# Altium integrated library Linear Technology PMIC-Switching Reg LTC1174-LTC3901.IntLib: 2647 symbols (part 244 of 310)
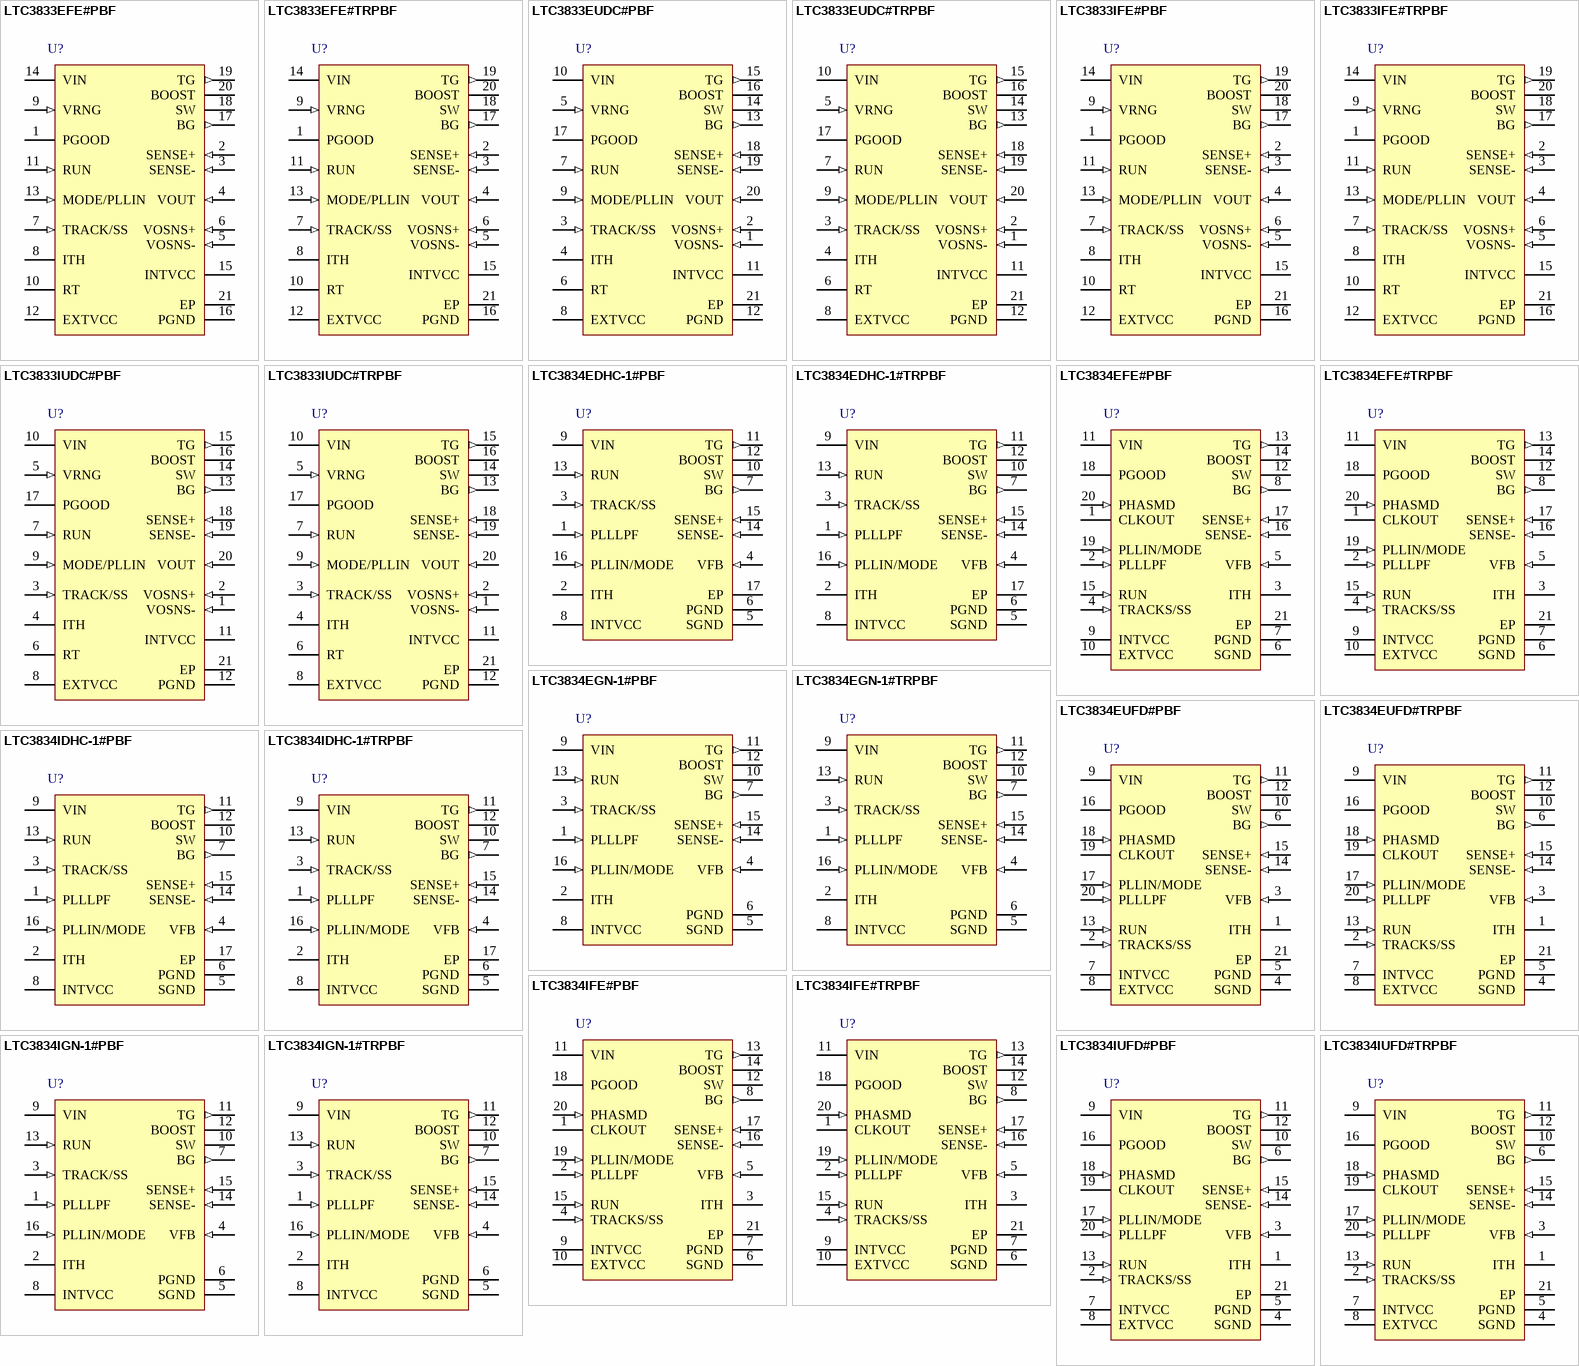
[diagram p260: symbols LTC3833EFE#PBF to LTC3834IUFD#TRPBF]

## LTC3834IFE#TRPBF
designator U?
30 uA IQ Synchronous Step-Down Controller, 20-pin SOP (FE-20-EPV-CB), -40 to 85 degC, Pb-Free, Tape and Reel; Manufacturer: Linear Technology; PartNumber: LTC3834IFE#TRPBF; Number of Outputs: 1; PackageReference: FE-20; PackageDescription: 20-Pin Plastic TSSOP, Body 6.5 x 4.4 mm, Pitch 0.65 mm; Supplier 1: Digi-Key; Supplier Part Number 1: LTC3834IFE#TRPBF-ND; RoHS: TRUE
footprint LT-FE-20-EPV-CB_N (SOP, 20-Leads, Body 6.6x4.5mm, Pitch 0.65mm, Thermal Pad 3.86x2.74mm, IPC Medium Density)
footprint LT-FE-20-EPV-CB_L (SOP, 20-Leads, Body 6.6x4.5mm, Pitch 0.65mm, Thermal Pad 3.86x2.74mm, IPC High Density)
footprint LT-FE-20-EPV-CB_M (SOP, 20-Leads, Body 6.6x4.5mm, Pitch 0.65mm, Thermal Pad 3.86x2.74mm, IPC Low Density)
pins: 1 CLKOUT (oc) "Open-Drain Output Clock Signal available to daisy-chain other controller ICs for additional MOSFET driver stages/phases.", 2 PLLLPF (in) "The phase-locked loop’s lowpass filter is tied to this pin when synchronizing to an external clock. Alternatively, tie this pin to GND, VIN or leave floating to select 250kHz, 530kHz or 400kHz switching frequency.", 3 ITH "Error Amplifier Outputs and Switching Regulator Compensation Points. The current comparator trip point increases with this control voltage.", 4 TRACKS/SS (in) "External Tracking and Soft-Start Input.", 5 VFB (in) "Receives the remotely sensed feedback voltage from an external resistive divider across the output.", 6 SGND (power) "Small-Signal Ground. Must be routed separately from high current grounds to the common (-) terminals of the input capacitor.", 7 PGND (power) "Driver Power Ground. Connects to the source of bottom (synchronous) N-channel MOSFET, anode of the Schottky rectifi er and the (-) terminal of CIN.", 8 BG (out) "High Current Gate Drive for Bottom (Synchronous) N-Channel MOSFET. Voltage swing at this pin is from ground to INTVCC.", 9 INTVCC (power) "Output of the Internal Linear Low Dropout Regulator.", 10 EXTVCC (power) "External Power Input to an Internal LDO Connected to INTVCC. This LDO supplies VCC power, bypassing the internal LDO powered from VIN whenever EXTVCC is higher than 4.7V. See EXTVCC Connection in the Applications Information (See Datasheet)", 11 VIN (power) "Main Supply Pin. A bypass capacitor should be tied between this pin and the signal ground pin.", 12 SW "Switch Node Connections to Inductor. Voltage swing at this pin is from a Schottky diode (external) voltage drop below ground to VIN.", 13 TG (out) "High Current Gate Drive for Top N-Channel MOSFET. These are the outputs of floating drivers with a voltage swing equal to INTVCC - 0.5V superimposed on the switch node voltage SW.", 14 BOOST "Bootstrapped Supply to the Topside Floating Driver. A capacitor is connected between the BOOST and SW pins and a Schottky diode is tied between the BOOST and INTVCC pins. Voltage swing at the BOOST pin is from INTVCC to (VIN (See Datasheet)", 15 RUN (in) "Digital Run Control Input for Controller.", 16 SENSE- (in) "The (-) Input to the Differential Current Comparator.", 17 SENSE+ (in) "The (+) Input to the Differential Current Comparator. The ITH pin voltage and controlled offsets between the SENSE- and SENSE+ pins in conjunction with RSENSE set the current trip threshold.", 18 PGOOD (oc) "Open-Drain Logic Output. PGOOD is pulled to ground when the voltage on the VFB pin is not within +/-10% of its set point.", 19 PLLIN/MODE (in) "External Synchronization Input to Phase Detector and Forced Continuous Control Input.", 20 PHASMD (in) "Control Input to Phase Selector which determines the phase relationships between TG and the CLKOUT signal.", 21 EP (power)

## LTC3834IGN-1#PBF
designator U?
30 uA IQ Synchronous Step-Down Controller, 16-pin SOP (GN-16), -40 to 85 degC, Pb-Free; Manufacturer: Linear Technology; PartNumber: LTC3834IGN-1#PBF; Number of Outputs: 1; PackageReference: GN-16; PackageDescription: 16-Pin Plastic SSOP, Body 4.9 x 3.9 mm, Pitch 0.635 mm; Supplier 1: Digi-Key; Supplier Part Number 1: LTC3834IGN-1#PBF-ND; RoHS: TRUE
footprint LT-GN-16_N (SOP, 16-Leads, Body 5x4mm, Pitch 0.635mm, IPC Medium Density)
footprint LT-GN-16_L (SOP, 16-Leads, Body 5x4mm, Pitch 0.635mm, IPC High Density)
footprint LT-GN-16_M (SOP, 16-Leads, Body 5x4mm, Pitch 0.635mm, IPC Low Density)
pins: 1 PLLLPF (in), 2 ITH, 3 TRACK/SS (in), 4 VFB (in) "Receives the remotely sensed feedback voltage from an external resistive divider across the output.", 5 SGND (power) "Small-Signal Ground. Must be routed separately from high current grounds to the common (-) terminals of the input capacitor", 6 PGND (power), 7 BG (out) "High Current Gate Drive for Bottom (Synchronous) N-Channel MOSFET. Voltage swing at this pin is from ground to INTVCC.", 8 INTVCC (power), 9 VIN (power) "Main Supply Pin. A bypass capacitor should be tied between this pin and the signal ground pin.", 10 SW "Switch Node Connections to Inductor. Voltage swing at this pin is from a Schottky diode (external) voltage drop below ground to VIN", 11 TG (out), 12 BOOST "Bootstrapped Supply to the Topside Floating Driver. A capacitor is connected between the BOOST and SW pins and a Schottky diode is tied between the BOOST and INTVCC pins. Voltage swing at the BOOST pin is from INTVCC to (VIN (See Datasheet)", 13 RUN (in), 14 SENSE- (in) "The (-) Input to the Differential Current Comparator.", 15 SENSE+ (in), 16 PLLIN/MODE (in)

## LTC3834IGN-1#TRPBF
designator U?
30 uA IQ Synchronous Step-Down Controller, 16-pin SOP (GN-16), -40 to 85 degC, Pb-Free, Tape and Reel; Manufacturer: Linear Technology; PartNumber: LTC3834IGN-1#TRPBF; Number of Outputs: 1; PackageReference: GN-16; PackageDescription: 16-Pin Plastic SSOP, Body 4.9 x 3.9 mm, Pitch 0.635 mm; Supplier 1: Digi-Key; Supplier Part Number 1: LTC3834IGN-1#TRPBF-ND; RoHS: TRUE
footprint LT-GN-16_N (SOP, 16-Leads, Body 5x4mm, Pitch 0.635mm, IPC Medium Density)
footprint LT-GN-16_L (SOP, 16-Leads, Body 5x4mm, Pitch 0.635mm, IPC High Density)
footprint LT-GN-16_M (SOP, 16-Leads, Body 5x4mm, Pitch 0.635mm, IPC Low Density)
pins: 1 PLLLPF (in), 2 ITH, 3 TRACK/SS (in), 4 VFB (in) "Receives the remotely sensed feedback voltage from an external resistive divider across the output.", 5 SGND (power) "Small-Signal Ground. Must be routed separately from high current grounds to the common (-) terminals of the input capacitor", 6 PGND (power), 7 BG (out) "High Current Gate Drive for Bottom (Synchronous) N-Channel MOSFET. Voltage swing at this pin is from ground to INTVCC.", 8 INTVCC (power), 9 VIN (power) "Main Supply Pin. A bypass capacitor should be tied between this pin and the signal ground pin.", 10 SW "Switch Node Connections to Inductor. Voltage swing at this pin is from a Schottky diode (external) voltage drop below ground to VIN", 11 TG (out), 12 BOOST "Bootstrapped Supply to the Topside Floating Driver. A capacitor is connected between the BOOST and SW pins and a Schottky diode is tied between the BOOST and INTVCC pins. Voltage swing at the BOOST pin is from INTVCC to (VIN (See Datasheet)", 13 RUN (in), 14 SENSE- (in) "The (-) Input to the Differential Current Comparator.", 15 SENSE+ (in), 16 PLLIN/MODE (in)

## LTC3834IUFD#PBF
designator U?
30 uA IQ Synchronous Step-Down Controller, 20-pin QFN (UFD-20), -40 to 85 degC, Pb-Free; Manufacturer: Linear Technology; PartNumber: LTC3834IUFD#PBF; Number of Outputs: 1; PackageReference: UFD-20; PackageDescription: 20-Pin Plastic QFN, Body 5 x 4 mm, Pitch 0.5 mm; Supplier 1: Digi-Key; Supplier Part Number 1: LTC3834IUFD#PBF-ND; RoHS: TRUE; Code_JEDEC: MO-220
footprint LT-UFD-20_N (QFN, 20-Leads, Body 5.1x4.1mm, Pitch 0.5mm, Thermal Pad 2.65x3.65mm, IPC Medium Density)
footprint LT-UFD-20_L (QFN, 20-Leads, Body 5.1x4.1mm, Pitch 0.5mm, Thermal Pad 2.65x3.65mm, IPC High Density)
footprint LT-UFD-20_M (QFN, 20-Leads, Body 5.1x4.1mm, Pitch 0.5mm, Thermal Pad 2.65x3.65mm, IPC Low Density)
pins: 1 ITH "Error Amplifier Outputs and Switching Regulator Compensation Points. The current comparator trip point increases with this control voltage.", 2 TRACKS/SS (in) "External Tracking and Soft-Start Input.", 3 VFB (in) "Receives the remotely sensed feedback voltage from an external resistive divider across the output.", 4 SGND (power) "Small-Signal Ground. Must be routed separately from high current grounds to the common (-) terminals of the input capacitor.", 5 PGND (power) "Driver Power Ground. Connects to the source of bottom (synchronous) N-channel MOSFET, anode of the Schottky rectifier and the (-) terminal of CIN.", 6 BG (out) "High Current Gate Drive for Bottom (Synchronous) N-Channel MOSFET. Voltage swing at this pin is from ground to INTVCC.", 7 INTVCC (power) "Output of the Internal Linear Low Dropout Regulator.", 8 EXTVCC (power) "External Power Input to an Internal LDO Connected to INTVCC. This LDO supplies VCC power, bypassing the internal LDO powered from VIN whenever EXTVCC is higher than 4.7V. See EXTVCC Connection in the Applications Information (See Datasheet)", 9 VIN (power) "Main Supply Pin. A bypass capacitor should be tied between this pin and the signal ground pin.", 10 SW "Switch Node Connections to Inductor. Voltage swing at this pin is from a Schottky diode (external) voltage drop below ground to VIN.", 11 TG (out) "High Current Gate Drive for Top N-Channel MOSFET. These are the outputs of floating drivers with a voltage swing equal to INTVCC - 0.5V superimposed on the switch node voltage SW.", 12 BOOST "Bootstrapped Supply to the Topside Floating Driver. A capacitor is connected between the BOOST and SW pins and a Schottky diode is tied between the BOOST and INTVCC pins. Voltage swing at the BOOST pin is from INTVCC to (VIN (See Datasheet)", 13 RUN (in) "Digital Run Control Input for Controller.", 14 SENSE- (in) "The (-) Input to the Differential Current Comparator.", 15 SENSE+ (in) "The (+) Input to the Differential Current Comparator. The ITH pin voltage and controlled offsets between the SENSE- and SENSE+ pins in conjunction with RSENSE set the current trip threshold.", 16 PGOOD (oc) "Open-Drain Logic Output. PGOOD is pulled to ground when the voltage on the VFB pin is not within +/-10% of its set point.", 17 PLLIN/MODE (in) "External Synchronization Input to Phase Detector and Forced Continuous Control Input.", 18 PHASMD (in) "Control Input to Phase Selector which determines the phase relationships between TG and the CLKOUT signal.", 19 CLKOUT (oc) "Open-Drain Output Clock Signal available to daisy-chain other controller ICs for additional MOSFET driver stages/phases.", 20 PLLLPF (in) "The phase-locked loop’s lowpass filter is tied to this pin when synchronizing to an external clock. Alternatively, tie this pin to GND, VIN or leave floating to select 250kHz, 530kHz or 400kHz switching frequency.", 21 EP (power)

## LTC3834IUFD#TRPBF
designator U?
30 uA IQ Synchronous Step-Down Controller, 20-pin QFN (UFD-20), -40 to 85 degC, Pb-Free, Tape and Reel; Manufacturer: Linear Technology; PartNumber: LTC3834IUFD#TRPBF; Number of Outputs: 1; PackageReference: UFD-20; PackageDescription: 20-Pin Plastic QFN, Body 5 x 4 mm, Pitch 0.5 mm; Supplier 1: Digi-Key; Supplier Part Number 1: LTC3834IUFD#TRPBF-ND; RoHS: TRUE; Code_JEDEC: MO-220
footprint LT-UFD-20_N (QFN, 20-Leads, Body 5.1x4.1mm, Pitch 0.5mm, Thermal Pad 2.65x3.65mm, IPC Medium Density)
footprint LT-UFD-20_L (QFN, 20-Leads, Body 5.1x4.1mm, Pitch 0.5mm, Thermal Pad 2.65x3.65mm, IPC High Density)
footprint LT-UFD-20_M (QFN, 20-Leads, Body 5.1x4.1mm, Pitch 0.5mm, Thermal Pad 2.65x3.65mm, IPC Low Density)
pins: 1 ITH "Error Amplifier Outputs and Switching Regulator Compensation Points. The current comparator trip point increases with this control voltage.", 2 TRACKS/SS (in) "External Tracking and Soft-Start Input.", 3 VFB (in) "Receives the remotely sensed feedback voltage from an external resistive divider across the output.", 4 SGND (power) "Small-Signal Ground. Must be routed separately from high current grounds to the common (-) terminals of the input capacitor.", 5 PGND (power) "Driver Power Ground. Connects to the source of bottom (synchronous) N-channel MOSFET, anode of the Schottky rectifier and the (-) terminal of CIN.", 6 BG (out) "High Current Gate Drive for Bottom (Synchronous) N-Channel MOSFET. Voltage swing at this pin is from ground to INTVCC.", 7 INTVCC (power) "Output of the Internal Linear Low Dropout Regulator.", 8 EXTVCC (power) "External Power Input to an Internal LDO Connected to INTVCC. This LDO supplies VCC power, bypassing the internal LDO powered from VIN whenever EXTVCC is higher than 4.7V. See EXTVCC Connection in the Applications Information (See Datasheet)", 9 VIN (power) "Main Supply Pin. A bypass capacitor should be tied between this pin and the signal ground pin.", 10 SW "Switch Node Connections to Inductor. Voltage swing at this pin is from a Schottky diode (external) voltage drop below ground to VIN.", 11 TG (out) "High Current Gate Drive for Top N-Channel MOSFET. These are the outputs of floating drivers with a voltage swing equal to INTVCC - 0.5V superimposed on the switch node voltage SW.", 12 BOOST "Bootstrapped Supply to the Topside Floating Driver. A capacitor is connected between the BOOST and SW pins and a Schottky diode is tied between the BOOST and INTVCC pins. Voltage swing at the BOOST pin is from INTVCC to (VIN (See Datasheet)", 13 RUN (in) "Digital Run Control Input for Controller.", 14 SENSE- (in) "The (-) Input to the Differential Current Comparator.", 15 SENSE+ (in) "The (+) Input to the Differential Current Comparator. The ITH pin voltage and controlled offsets between the SENSE- and SENSE+ pins in conjunction with RSENSE set the current trip threshold.", 16 PGOOD (oc) "Open-Drain Logic Output. PGOOD is pulled to ground when the voltage on the VFB pin is not within +/-10% of its set point.", 17 PLLIN/MODE (in) "External Synchronization Input to Phase Detector and Forced Continuous Control Input.", 18 PHASMD (in) "Control Input to Phase Selector which determines the phase relationships between TG and the CLKOUT signal.", 19 CLKOUT (oc) "Open-Drain Output Clock Signal available to daisy-chain other controller ICs for additional MOSFET driver stages/phases.", 20 PLLLPF (in) "The phase-locked loop’s lowpass filter is tied to this pin when synchronizing to an external clock. Alternatively, tie this pin to GND, VIN or leave floating to select 250kHz, 530kHz or 400kHz switching frequency.", 21 EP (power)

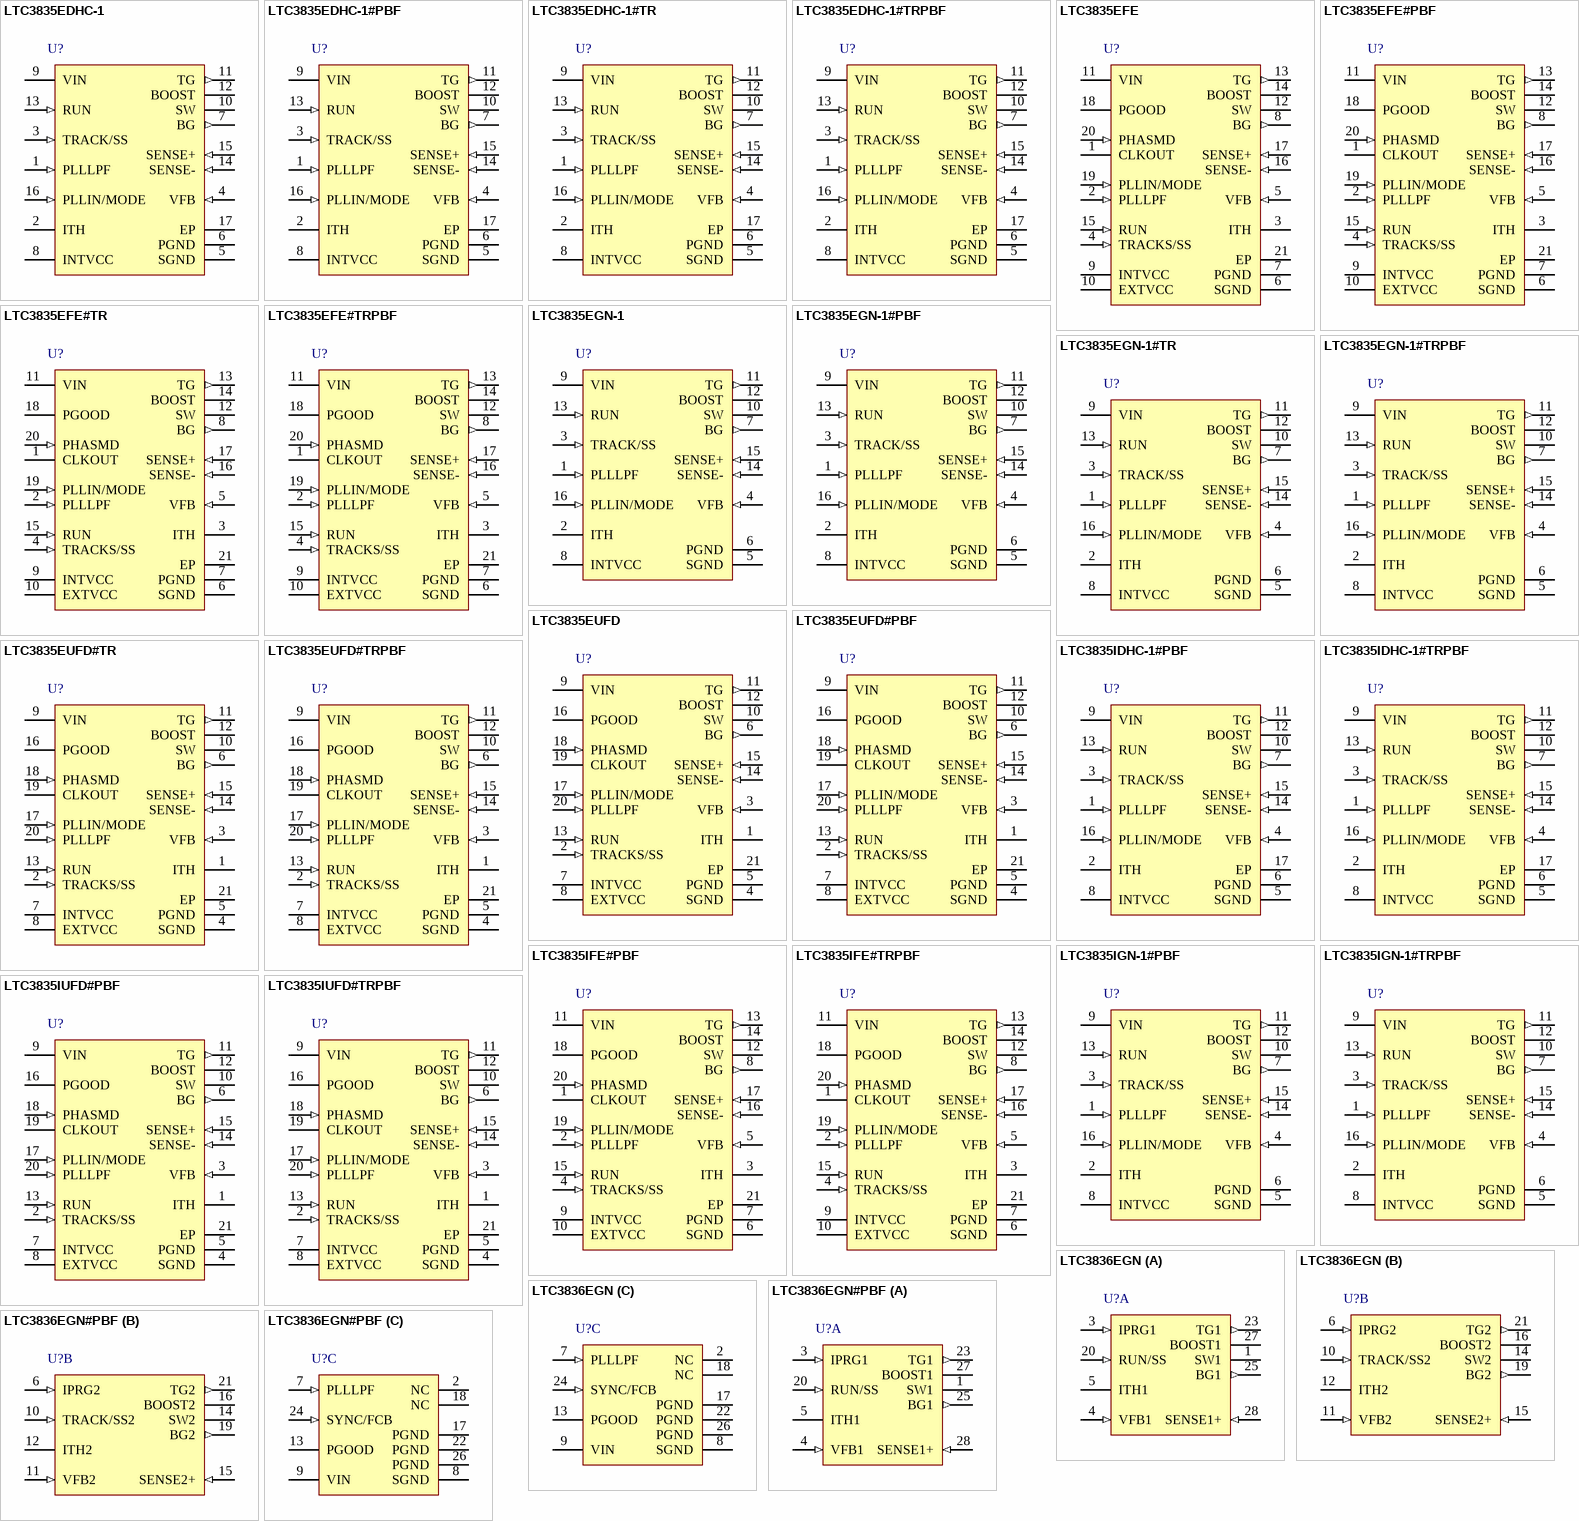
[diagram p87: symbols LTC3835EDHC-1 to LTC3836EGN#PBF]

## LTC3835EDHC-1
designator U?
Low IQ Synchronous Step-Down Controller, 16-pin SON (DHC-16), -40 to 85 degC; Manufacturer: Linear Technology; PartNumber: LTC3835EDHC-1; Number of Outputs: 1; PackageReference: DHC-16; PackageDescription: 16-Pin Plastic DFN, Body 5 x 3 mm, Pitch 0.5 mm; RoHS: FALSE; Code_JEDEC: MO-229
footprint LT-DHC-16_V (SON, 16-Leads, Body 5x3mm, Pitch 0.5mm, Thermal Pad 4.4X1.65mm)
pins: 1 PLLLPF (in) "The phase-locked loop’s lowpass filter is tied to this pin when synchronizing to an external clock. Alternatively, tie this pin to GND, INTVCC or leave floating to select 250kHz, 530kHz or 400kHz switching frequency.", 2 ITH "Error Amplifier Outputs and Switching Regulator Compensation Points. The current comparator trip point increases with this control voltage.", 3 TRACK/SS (in) "External Tracking and Soft-Start Input.", 4 VFB (in) "Receives the remotely sensed feedback voltage from an external resistive divider across the output.", 5 SGND (power) "Small Signal Ground. Must be routed separately from high current grounds to the common (-) terminals of the input capacitor.", 6 PGND (power) "Driver Power Ground. Connects to the source of bottom (synchronous) N-channel MOSFET, anode of the Schottky rectifier and the (-) terminal of CIN.", 7 BG (out) "High Current Gate Drive for Bottom (Synchronous) N-Channel MOSFET. Voltage swing at this pin is from ground to INTVCC.", 8 INTVCC (power) "Output of the Internal Linear Low Dropout Regulator. The driver and control circuits are powered from this voltage source. Must be decoupled to power ground with a minimum of 4.7uF tantalum or ceramic capacitor.", 9 VIN (power) "Main Supply Pin. A bypass capacitor should be tied between this pin and the signal ground pin.", 10 SW "Switch Node Connections to Inductor. Voltage swing at this pin is from a Schottky diode (external) voltage drop below ground to VIN.", 11 TG (out) "High Current Gate Drive for Top Nchannel MOSFET. These are the outputs of floating drivers with a voltage swing equal to INTVCC - 0.5V superimposed on the switch node voltage SW.", 12 BOOST "Bootstrapped Supply to the Top Side Floating Driver. A capacitor is connected between the BOOST and SW pins and a Schottky diode is tied between the BOOST and INTVCC pins. Voltage swing at the BOOST pin is from INTVCC to (See Datasheet)", 13 RUN (in) "Digital Run Control Input for Controller.", 14 SENSE- (in) "The (-) Input to the Differential Current Comparator.", 15 SENSE+ (in) "The (+) Input to the Differential Current Comparator. The ITH pin voltage and controlled offsets between the SENSE- and SENSE+ pins in conjunction with RSENSE set the current trip threshold.", 16 PLLIN/MODE (in) "External Synchronization Input to Phase Detector and Forced Continuous Control Input. When an external clock is applied to this pin, the phase-locked loop will force the rising TG signal to be synchronized with the rising (See Datasheet)", 17 EP (power) "SGND. Must be soldered to PCB."

## LTC3835EDHC-1#PBF
designator U?
Low IQ Synchronous Step-Down Controller, 16-pin SON (DHC-16), -40 to 85 degC, Pb-Free; Manufacturer: Linear Technology; PartNumber: LTC3835EDHC-1#PBF; Number of Outputs: 1; PackageReference: DHC-16; PackageDescription: 16-Pin Plastic DFN, Body 5 x 3 mm, Pitch 0.5 mm; Supplier 1: Digi-Key; Supplier Part Number 1: LTC3835EDHC-1#PBF-ND; RoHS: TRUE; Code_JEDEC: MO-229
footprint LT-DHC-16_V (SON, 16-Leads, Body 5x3mm, Pitch 0.5mm, Thermal Pad 4.4X1.65mm)
pins: 1 PLLLPF (in) "The phase-locked loop’s lowpass filter is tied to this pin when synchronizing to an external clock. Alternatively, tie this pin to GND, INTVCC or leave floating to select 250kHz, 530kHz or 400kHz switching frequency.", 2 ITH "Error Amplifier Outputs and Switching Regulator Compensation Points. The current comparator trip point increases with this control voltage.", 3 TRACK/SS (in) "External Tracking and Soft-Start Input.", 4 VFB (in) "Receives the remotely sensed feedback voltage from an external resistive divider across the output.", 5 SGND (power) "Small Signal Ground. Must be routed separately from high current grounds to the common (-) terminals of the input capacitor.", 6 PGND (power) "Driver Power Ground. Connects to the source of bottom (synchronous) N-channel MOSFET, anode of the Schottky rectifier and the (-) terminal of CIN.", 7 BG (out) "High Current Gate Drive for Bottom (Synchronous) N-Channel MOSFET. Voltage swing at this pin is from ground to INTVCC.", 8 INTVCC (power) "Output of the Internal Linear Low Dropout Regulator. The driver and control circuits are powered from this voltage source. Must be decoupled to power ground with a minimum of 4.7uF tantalum or ceramic capacitor.", 9 VIN (power) "Main Supply Pin. A bypass capacitor should be tied between this pin and the signal ground pin.", 10 SW "Switch Node Connections to Inductor. Voltage swing at this pin is from a Schottky diode (external) voltage drop below ground to VIN.", 11 TG (out) "High Current Gate Drive for Top Nchannel MOSFET. These are the outputs of floating drivers with a voltage swing equal to INTVCC - 0.5V superimposed on the switch node voltage SW.", 12 BOOST "Bootstrapped Supply to the Top Side Floating Driver. A capacitor is connected between the BOOST and SW pins and a Schottky diode is tied between the BOOST and INTVCC pins. Voltage swing at the BOOST pin is from INTVCC to (See Datasheet)", 13 RUN (in) "Digital Run Control Input for Controller.", 14 SENSE- (in) "The (-) Input to the Differential Current Comparator.", 15 SENSE+ (in) "The (+) Input to the Differential Current Comparator. The ITH pin voltage and controlled offsets between the SENSE- and SENSE+ pins in conjunction with RSENSE set the current trip threshold.", 16 PLLIN/MODE (in) "External Synchronization Input to Phase Detector and Forced Continuous Control Input. When an external clock is applied to this pin, the phase-locked loop will force the rising TG signal to be synchronized with the rising (See Datasheet)", 17 EP (power) "SGND. Must be soldered to PCB."

## LTC3835EDHC-1#TR
designator U?
Low IQ Synchronous Step-Down Controller, 16-pin SON (DHC-16), -40 to 85 degC, Tape and Reel; Manufacturer: Linear Technology; PartNumber: LTC3835EDHC-1#TR; Number of Outputs: 1; PackageReference: DHC-16; PackageDescription: 16-Pin Plastic DFN, Body 5 x 3 mm, Pitch 0.5 mm; RoHS: FALSE; Code_JEDEC: MO-229
footprint LT-DHC-16_V (SON, 16-Leads, Body 5x3mm, Pitch 0.5mm, Thermal Pad 4.4X1.65mm)
pins: 1 PLLLPF (in) "The phase-locked loop’s lowpass filter is tied to this pin when synchronizing to an external clock. Alternatively, tie this pin to GND, INTVCC or leave floating to select 250kHz, 530kHz or 400kHz switching frequency.", 2 ITH "Error Amplifier Outputs and Switching Regulator Compensation Points. The current comparator trip point increases with this control voltage.", 3 TRACK/SS (in) "External Tracking and Soft-Start Input.", 4 VFB (in) "Receives the remotely sensed feedback voltage from an external resistive divider across the output.", 5 SGND (power) "Small Signal Ground. Must be routed separately from high current grounds to the common (-) terminals of the input capacitor.", 6 PGND (power) "Driver Power Ground. Connects to the source of bottom (synchronous) N-channel MOSFET, anode of the Schottky rectifier and the (-) terminal of CIN.", 7 BG (out) "High Current Gate Drive for Bottom (Synchronous) N-Channel MOSFET. Voltage swing at this pin is from ground to INTVCC.", 8 INTVCC (power) "Output of the Internal Linear Low Dropout Regulator. The driver and control circuits are powered from this voltage source. Must be decoupled to power ground with a minimum of 4.7uF tantalum or ceramic capacitor.", 9 VIN (power) "Main Supply Pin. A bypass capacitor should be tied between this pin and the signal ground pin.", 10 SW "Switch Node Connections to Inductor. Voltage swing at this pin is from a Schottky diode (external) voltage drop below ground to VIN.", 11 TG (out) "High Current Gate Drive for Top Nchannel MOSFET. These are the outputs of floating drivers with a voltage swing equal to INTVCC - 0.5V superimposed on the switch node voltage SW.", 12 BOOST "Bootstrapped Supply to the Top Side Floating Driver. A capacitor is connected between the BOOST and SW pins and a Schottky diode is tied between the BOOST and INTVCC pins. Voltage swing at the BOOST pin is from INTVCC to (See Datasheet)", 13 RUN (in) "Digital Run Control Input for Controller.", 14 SENSE- (in) "The (-) Input to the Differential Current Comparator.", 15 SENSE+ (in) "The (+) Input to the Differential Current Comparator. The ITH pin voltage and controlled offsets between the SENSE- and SENSE+ pins in conjunction with RSENSE set the current trip threshold.", 16 PLLIN/MODE (in) "External Synchronization Input to Phase Detector and Forced Continuous Control Input. When an external clock is applied to this pin, the phase-locked loop will force the rising TG signal to be synchronized with the rising (See Datasheet)", 17 EP (power) "SGND. Must be soldered to PCB."

## LTC3835EDHC-1#TRPBF
designator U?
Low IQ Synchronous Step-Down Controller, 16-pin SON (DHC-16), -40 to 85 degC, Pb-Free, Tape and Reel; Manufacturer: Linear Technology; PartNumber: LTC3835EDHC-1#TRPBF; Number of Outputs: 1; PackageReference: DHC-16; PackageDescription: 16-Pin Plastic DFN, Body 5 x 3 mm, Pitch 0.5 mm; Supplier 1: Digi-Key; Supplier Part Number 1: LTC3835EDHC-1#TRPBF-ND; RoHS: TRUE; Code_JEDEC: MO-229
footprint LT-DHC-16_V (SON, 16-Leads, Body 5x3mm, Pitch 0.5mm, Thermal Pad 4.4X1.65mm)
pins: 1 PLLLPF (in) "The phase-locked loop’s lowpass filter is tied to this pin when synchronizing to an external clock. Alternatively, tie this pin to GND, INTVCC or leave floating to select 250kHz, 530kHz or 400kHz switching frequency.", 2 ITH "Error Amplifier Outputs and Switching Regulator Compensation Points. The current comparator trip point increases with this control voltage.", 3 TRACK/SS (in) "External Tracking and Soft-Start Input.", 4 VFB (in) "Receives the remotely sensed feedback voltage from an external resistive divider across the output.", 5 SGND (power) "Small Signal Ground. Must be routed separately from high current grounds to the common (-) terminals of the input capacitor.", 6 PGND (power) "Driver Power Ground. Connects to the source of bottom (synchronous) N-channel MOSFET, anode of the Schottky rectifier and the (-) terminal of CIN.", 7 BG (out) "High Current Gate Drive for Bottom (Synchronous) N-Channel MOSFET. Voltage swing at this pin is from ground to INTVCC.", 8 INTVCC (power) "Output of the Internal Linear Low Dropout Regulator. The driver and control circuits are powered from this voltage source. Must be decoupled to power ground with a minimum of 4.7uF tantalum or ceramic capacitor.", 9 VIN (power) "Main Supply Pin. A bypass capacitor should be tied between this pin and the signal ground pin.", 10 SW "Switch Node Connections to Inductor. Voltage swing at this pin is from a Schottky diode (external) voltage drop below ground to VIN.", 11 TG (out) "High Current Gate Drive for Top Nchannel MOSFET. These are the outputs of floating drivers with a voltage swing equal to INTVCC - 0.5V superimposed on the switch node voltage SW.", 12 BOOST "Bootstrapped Supply to the Top Side Floating Driver. A capacitor is connected between the BOOST and SW pins and a Schottky diode is tied between the BOOST and INTVCC pins. Voltage swing at the BOOST pin is from INTVCC to (See Datasheet)", 13 RUN (in) "Digital Run Control Input for Controller.", 14 SENSE- (in) "The (-) Input to the Differential Current Comparator.", 15 SENSE+ (in) "The (+) Input to the Differential Current Comparator. The ITH pin voltage and controlled offsets between the SENSE- and SENSE+ pins in conjunction with RSENSE set the current trip threshold.", 16 PLLIN/MODE (in) "External Synchronization Input to Phase Detector and Forced Continuous Control Input. When an external clock is applied to this pin, the phase-locked loop will force the rising TG signal to be synchronized with the rising (See Datasheet)", 17 EP (power) "SGND. Must be soldered to PCB."

## LTC3835EFE
designator U?
Low IQ Synchronous Step-Down Controller, 20-pin SOP (FE-20-EPV-CB), -40 to 85 degC; Manufacturer: Linear Technology; PartNumber: LTC3835EFE; Number of Outputs: 1; PackageReference: FE-20; PackageDescription: 20-Pin Plastic TSSOP, Body 6.5 x 4.4 mm, Pitch 0.65 mm; RoHS: FALSE
footprint LT-FE-20-EPV-CB_N (SOP, 20-Leads, Body 6.6x4.5mm, Pitch 0.65mm, Thermal Pad 3.86x2.74mm, IPC Medium Density)
footprint LT-FE-20-EPV-CB_L (SOP, 20-Leads, Body 6.6x4.5mm, Pitch 0.65mm, Thermal Pad 3.86x2.74mm, IPC High Density)
footprint LT-FE-20-EPV-CB_M (SOP, 20-Leads, Body 6.6x4.5mm, Pitch 0.65mm, Thermal Pad 3.86x2.74mm, IPC Low Density)
pins: 1 CLKOUT (oc) "Open-Drain Output Clock Signal available to daisy-chain other controller ICs for additional MOSFET driver stages/phases.", 2 PLLLPF (in) "The phase-locked loop’s lowpass filter is tied to this pin when synchronizing to an external clock. Alternatively, tie this pin to GND, VIN or leave floating to select 250kHz, 530kHz or 400kHz switching frequency.", 3 ITH "Error Amplifier Outputs and Switching Regulator Compensation Points. The current comparator trip point increases with this control voltage.", 4 TRACKS/SS (in) "External Tracking and Soft-Start Input.", 5 VFB (in) "Receives the remotely sensed feedback voltage from an external resistive divider across the output.", 6 SGND (power) "Small-Signal Ground. Must be routed separately from high current grounds to the common (-) terminals of the input capacitor.", 7 PGND (power) "Driver Power Ground. Connects to the source of bottom (synchronous) N-channel MOSFET, anode of the Schottky rectifi er and the (-) terminal of CIN.", 8 BG (out) "High Current Gate Drive for Bottom (Synchronous) N-Channel MOSFET. Voltage swing at this pin is from ground to INTVCC.", 9 INTVCC (power) "Output of the Internal Linear Low Dropout Regulator.", 10 EXTVCC (power) "External Power Input to an Internal LDO Connected to INTVCC. This LDO supplies VCC power, bypassing the internal LDO powered from VIN whenever EXTVCC is higher than 4.7V. See EXTVCC Connection in the Applications Information (See Datasheet)", 11 VIN (power) "Main Supply Pin. A bypass capacitor should be tied between this pin and the signal ground pin.", 12 SW "Switch Node Connections to Inductor. Voltage swing at this pin is from a Schottky diode (external) voltage drop below ground to VIN.", 13 TG (out) "High Current Gate Drive for Top N-Channel MOSFET. These are the outputs of floating drivers with a voltage swing equal to INTVCC - 0.5V superimposed on the switch node voltage SW.", 14 BOOST "Bootstrapped Supply to the Topside Floating Driver. A capacitor is connected between the BOOST and SW pins and a Schottky diode is tied between the BOOST and INTVCC pins. Voltage swing at the BOOST pin is from INTVCC to (VIN (See Datasheet)", 15 RUN (in) "Digital Run Control Input for Controller.", 16 SENSE- (in) "The (-) Input to the Differential Current Comparator.", 17 SENSE+ (in) "The (+) Input to the Differential Current Comparator. The ITH pin voltage and controlled offsets between the SENSE- and SENSE+ pins in conjunction with RSENSE set the current trip threshold.", 18 PGOOD (oc) "Open-Drain Logic Output. PGOOD is pulled to ground when the voltage on the VFB pin is not within +/-10% of its set point.", 19 PLLIN/MODE (in) "External Synchronization Input to Phase Detector and Forced Continuous Control Input.", 20 PHASMD (in) "Control Input to Phase Selector which determines the phase relationships between TG and the CLKOUT signal.", 21 EP (power)

## LTC3835EFE#PBF
designator U?
Low IQ Synchronous Step-Down Controller, 20-pin SOP (FE-20-EPV-CB), -40 to 85 degC, Pb-Free; Manufacturer: Linear Technology; PartNumber: LTC3835EFE#PBF; Number of Outputs: 1; PackageReference: FE-20; PackageDescription: 20-Pin Plastic TSSOP, Body 6.5 x 4.4 mm, Pitch 0.65 mm; Supplier 1: Digi-Key; Supplier Part Number 1: LTC3835EFE#PBF-ND; RoHS: TRUE
footprint LT-FE-20-EPV-CB_N (SOP, 20-Leads, Body 6.6x4.5mm, Pitch 0.65mm, Thermal Pad 3.86x2.74mm, IPC Medium Density)
footprint LT-FE-20-EPV-CB_L (SOP, 20-Leads, Body 6.6x4.5mm, Pitch 0.65mm, Thermal Pad 3.86x2.74mm, IPC High Density)
footprint LT-FE-20-EPV-CB_M (SOP, 20-Leads, Body 6.6x4.5mm, Pitch 0.65mm, Thermal Pad 3.86x2.74mm, IPC Low Density)
pins: 1 CLKOUT (oc) "Open-Drain Output Clock Signal available to daisy-chain other controller ICs for additional MOSFET driver stages/phases.", 2 PLLLPF (in) "The phase-locked loop’s lowpass filter is tied to this pin when synchronizing to an external clock. Alternatively, tie this pin to GND, VIN or leave floating to select 250kHz, 530kHz or 400kHz switching frequency.", 3 ITH "Error Amplifier Outputs and Switching Regulator Compensation Points. The current comparator trip point increases with this control voltage.", 4 TRACKS/SS (in) "External Tracking and Soft-Start Input.", 5 VFB (in) "Receives the remotely sensed feedback voltage from an external resistive divider across the output.", 6 SGND (power) "Small-Signal Ground. Must be routed separately from high current grounds to the common (-) terminals of the input capacitor.", 7 PGND (power) "Driver Power Ground. Connects to the source of bottom (synchronous) N-channel MOSFET, anode of the Schottky rectifi er and the (-) terminal of CIN.", 8 BG (out) "High Current Gate Drive for Bottom (Synchronous) N-Channel MOSFET. Voltage swing at this pin is from ground to INTVCC.", 9 INTVCC (power) "Output of the Internal Linear Low Dropout Regulator.", 10 EXTVCC (power) "External Power Input to an Internal LDO Connected to INTVCC. This LDO supplies VCC power, bypassing the internal LDO powered from VIN whenever EXTVCC is higher than 4.7V. See EXTVCC Connection in the Applications Information (See Datasheet)", 11 VIN (power) "Main Supply Pin. A bypass capacitor should be tied between this pin and the signal ground pin.", 12 SW "Switch Node Connections to Inductor. Voltage swing at this pin is from a Schottky diode (external) voltage drop below ground to VIN.", 13 TG (out) "High Current Gate Drive for Top N-Channel MOSFET. These are the outputs of floating drivers with a voltage swing equal to INTVCC - 0.5V superimposed on the switch node voltage SW.", 14 BOOST "Bootstrapped Supply to the Topside Floating Driver. A capacitor is connected between the BOOST and SW pins and a Schottky diode is tied between the BOOST and INTVCC pins. Voltage swing at the BOOST pin is from INTVCC to (VIN (See Datasheet)", 15 RUN (in) "Digital Run Control Input for Controller.", 16 SENSE- (in) "The (-) Input to the Differential Current Comparator.", 17 SENSE+ (in) "The (+) Input to the Differential Current Comparator. The ITH pin voltage and controlled offsets between the SENSE- and SENSE+ pins in conjunction with RSENSE set the current trip threshold.", 18 PGOOD (oc) "Open-Drain Logic Output. PGOOD is pulled to ground when the voltage on the VFB pin is not within +/-10% of its set point.", 19 PLLIN/MODE (in) "External Synchronization Input to Phase Detector and Forced Continuous Control Input.", 20 PHASMD (in) "Control Input to Phase Selector which determines the phase relationships between TG and the CLKOUT signal.", 21 EP (power)

## LTC3835EFE#TR
designator U?
Low IQ Synchronous Step-Down Controller, 20-pin SOP (FE-20-EPV-CB), -40 to 85 degC, Tape and Reel; Manufacturer: Linear Technology; PartNumber: LTC3835EFE#TR; Number of Outputs: 1; PackageReference: FE-20; PackageDescription: 20-Pin Plastic TSSOP, Body 6.5 x 4.4 mm, Pitch 0.65 mm; RoHS: FALSE
footprint LT-FE-20-EPV-CB_N (SOP, 20-Leads, Body 6.6x4.5mm, Pitch 0.65mm, Thermal Pad 3.86x2.74mm, IPC Medium Density)
footprint LT-FE-20-EPV-CB_L (SOP, 20-Leads, Body 6.6x4.5mm, Pitch 0.65mm, Thermal Pad 3.86x2.74mm, IPC High Density)
footprint LT-FE-20-EPV-CB_M (SOP, 20-Leads, Body 6.6x4.5mm, Pitch 0.65mm, Thermal Pad 3.86x2.74mm, IPC Low Density)
pins: 1 CLKOUT (oc) "Open-Drain Output Clock Signal available to daisy-chain other controller ICs for additional MOSFET driver stages/phases.", 2 PLLLPF (in) "The phase-locked loop’s lowpass filter is tied to this pin when synchronizing to an external clock. Alternatively, tie this pin to GND, VIN or leave floating to select 250kHz, 530kHz or 400kHz switching frequency.", 3 ITH "Error Amplifier Outputs and Switching Regulator Compensation Points. The current comparator trip point increases with this control voltage.", 4 TRACKS/SS (in) "External Tracking and Soft-Start Input.", 5 VFB (in) "Receives the remotely sensed feedback voltage from an external resistive divider across the output.", 6 SGND (power) "Small-Signal Ground. Must be routed separately from high current grounds to the common (-) terminals of the input capacitor.", 7 PGND (power) "Driver Power Ground. Connects to the source of bottom (synchronous) N-channel MOSFET, anode of the Schottky rectifi er and the (-) terminal of CIN.", 8 BG (out) "High Current Gate Drive for Bottom (Synchronous) N-Channel MOSFET. Voltage swing at this pin is from ground to INTVCC.", 9 INTVCC (power) "Output of the Internal Linear Low Dropout Regulator.", 10 EXTVCC (power) "External Power Input to an Internal LDO Connected to INTVCC. This LDO supplies VCC power, bypassing the internal LDO powered from VIN whenever EXTVCC is higher than 4.7V. See EXTVCC Connection in the Applications Information (See Datasheet)", 11 VIN (power) "Main Supply Pin. A bypass capacitor should be tied between this pin and the signal ground pin.", 12 SW "Switch Node Connections to Inductor. Voltage swing at this pin is from a Schottky diode (external) voltage drop below ground to VIN.", 13 TG (out) "High Current Gate Drive for Top N-Channel MOSFET. These are the outputs of floating drivers with a voltage swing equal to INTVCC - 0.5V superimposed on the switch node voltage SW.", 14 BOOST "Bootstrapped Supply to the Topside Floating Driver. A capacitor is connected between the BOOST and SW pins and a Schottky diode is tied between the BOOST and INTVCC pins. Voltage swing at the BOOST pin is from INTVCC to (VIN (See Datasheet)", 15 RUN (in) "Digital Run Control Input for Controller.", 16 SENSE- (in) "The (-) Input to the Differential Current Comparator.", 17 SENSE+ (in) "The (+) Input to the Differential Current Comparator. The ITH pin voltage and controlled offsets between the SENSE- and SENSE+ pins in conjunction with RSENSE set the current trip threshold.", 18 PGOOD (oc) "Open-Drain Logic Output. PGOOD is pulled to ground when the voltage on the VFB pin is not within +/-10% of its set point.", 19 PLLIN/MODE (in) "External Synchronization Input to Phase Detector and Forced Continuous Control Input.", 20 PHASMD (in) "Control Input to Phase Selector which determines the phase relationships between TG and the CLKOUT signal.", 21 EP (power)

## LTC3835EFE#TRPBF
designator U?
Low IQ Synchronous Step-Down Controller, 20-pin SOP (FE-20-EPV-CB), -40 to 85 degC, Pb-Free, Tape and Reel; Manufacturer: Linear Technology; PartNumber: LTC3835EFE#TRPBF; Number of Outputs: 1; PackageReference: FE-20; PackageDescription: 20-Pin Plastic TSSOP, Body 6.5 x 4.4 mm, Pitch 0.65 mm; Supplier 1: Digi-Key; Supplier Part Number 1: LTC3835EFE#TRPBF-ND; RoHS: TRUE
footprint LT-FE-20-EPV-CB_N (SOP, 20-Leads, Body 6.6x4.5mm, Pitch 0.65mm, Thermal Pad 3.86x2.74mm, IPC Medium Density)
footprint LT-FE-20-EPV-CB_L (SOP, 20-Leads, Body 6.6x4.5mm, Pitch 0.65mm, Thermal Pad 3.86x2.74mm, IPC High Density)
footprint LT-FE-20-EPV-CB_M (SOP, 20-Leads, Body 6.6x4.5mm, Pitch 0.65mm, Thermal Pad 3.86x2.74mm, IPC Low Density)
pins: 1 CLKOUT (oc) "Open-Drain Output Clock Signal available to daisy-chain other controller ICs for additional MOSFET driver stages/phases.", 2 PLLLPF (in) "The phase-locked loop’s lowpass filter is tied to this pin when synchronizing to an external clock. Alternatively, tie this pin to GND, VIN or leave floating to select 250kHz, 530kHz or 400kHz switching frequency.", 3 ITH "Error Amplifier Outputs and Switching Regulator Compensation Points. The current comparator trip point increases with this control voltage.", 4 TRACKS/SS (in) "External Tracking and Soft-Start Input.", 5 VFB (in) "Receives the remotely sensed feedback voltage from an external resistive divider across the output.", 6 SGND (power) "Small-Signal Ground. Must be routed separately from high current grounds to the common (-) terminals of the input capacitor.", 7 PGND (power) "Driver Power Ground. Connects to the source of bottom (synchronous) N-channel MOSFET, anode of the Schottky rectifi er and the (-) terminal of CIN.", 8 BG (out) "High Current Gate Drive for Bottom (Synchronous) N-Channel MOSFET. Voltage swing at this pin is from ground to INTVCC.", 9 INTVCC (power) "Output of the Internal Linear Low Dropout Regulator.", 10 EXTVCC (power) "External Power Input to an Internal LDO Connected to INTVCC. This LDO supplies VCC power, bypassing the internal LDO powered from VIN whenever EXTVCC is higher than 4.7V. See EXTVCC Connection in the Applications Information (See Datasheet)", 11 VIN (power) "Main Supply Pin. A bypass capacitor should be tied between this pin and the signal ground pin.", 12 SW "Switch Node Connections to Inductor. Voltage swing at this pin is from a Schottky diode (external) voltage drop below ground to VIN.", 13 TG (out) "High Current Gate Drive for Top N-Channel MOSFET. These are the outputs of floating drivers with a voltage swing equal to INTVCC - 0.5V superimposed on the switch node voltage SW.", 14 BOOST "Bootstrapped Supply to the Topside Floating Driver. A capacitor is connected between the BOOST and SW pins and a Schottky diode is tied between the BOOST and INTVCC pins. Voltage swing at the BOOST pin is from INTVCC to (VIN (See Datasheet)", 15 RUN (in) "Digital Run Control Input for Controller.", 16 SENSE- (in) "The (-) Input to the Differential Current Comparator.", 17 SENSE+ (in) "The (+) Input to the Differential Current Comparator. The ITH pin voltage and controlled offsets between the SENSE- and SENSE+ pins in conjunction with RSENSE set the current trip threshold.", 18 PGOOD (oc) "Open-Drain Logic Output. PGOOD is pulled to ground when the voltage on the VFB pin is not within +/-10% of its set point.", 19 PLLIN/MODE (in) "External Synchronization Input to Phase Detector and Forced Continuous Control Input.", 20 PHASMD (in) "Control Input to Phase Selector which determines the phase relationships between TG and the CLKOUT signal.", 21 EP (power)

## LTC3835EGN-1
designator U?
Low IQ Synchronous Step-Down Controller, 16-pin SOP (GN-16), -40 to 85 degC; Manufacturer: Linear Technology; PartNumber: LTC3835EGN-1; Number of Outputs: 1; PackageReference: GN-16; PackageDescription: 16-Pin Plastic SSOP, Body 4.9 x 3.9 mm, Pitch 0.635 mm; RoHS: FALSE
footprint LT-GN-16_N (SOP, 16-Leads, Body 5x4mm, Pitch 0.635mm, IPC Medium Density)
footprint LT-GN-16_L (SOP, 16-Leads, Body 5x4mm, Pitch 0.635mm, IPC High Density)
footprint LT-GN-16_M (SOP, 16-Leads, Body 5x4mm, Pitch 0.635mm, IPC Low Density)
pins: 1 PLLLPF (in), 2 ITH, 3 TRACK/SS (in), 4 VFB (in) "Receives the remotely sensed feedback voltage from an external resistive divider across the output.", 5 SGND (power) "Small-Signal Ground. Must be routed separately from high current grounds to the common (-) terminals of the input capacitor", 6 PGND (power), 7 BG (out) "High Current Gate Drive for Bottom (Synchronous) N-Channel MOSFET. Voltage swing at this pin is from ground to INTVCC.", 8 INTVCC (power), 9 VIN (power) "Main Supply Pin. A bypass capacitor should be tied between this pin and the signal ground pin.", 10 SW "Switch Node Connections to Inductor. Voltage swing at this pin is from a Schottky diode (external) voltage drop below ground to VIN", 11 TG (out), 12 BOOST "Bootstrapped Supply to the Topside Floating Driver. A capacitor is connected between the BOOST and SW pins and a Schottky diode is tied between the BOOST and INTVCC pins. Voltage swing at the BOOST pin is from INTVCC to (VIN (See Datasheet)", 13 RUN (in), 14 SENSE- (in) "The (-) Input to the Differential Current Comparator.", 15 SENSE+ (in), 16 PLLIN/MODE (in)

## LTC3835EGN-1#PBF
designator U?
Low IQ Synchronous Step-Down Controller, 16-pin SOP (GN-16), -40 to 85 degC, Pb-Free; Manufacturer: Linear Technology; PartNumber: LTC3835EGN-1#PBF; Number of Outputs: 1; PackageReference: GN-16; PackageDescription: 16-Pin Plastic SSOP, Body 4.9 x 3.9 mm, Pitch 0.635 mm; Supplier 1: Digi-Key; Supplier Part Number 1: LTC3835EGN-1#PBF-ND; RoHS: TRUE
footprint LT-GN-16_N (SOP, 16-Leads, Body 5x4mm, Pitch 0.635mm, IPC Medium Density)
footprint LT-GN-16_L (SOP, 16-Leads, Body 5x4mm, Pitch 0.635mm, IPC High Density)
footprint LT-GN-16_M (SOP, 16-Leads, Body 5x4mm, Pitch 0.635mm, IPC Low Density)
pins: 1 PLLLPF (in), 2 ITH, 3 TRACK/SS (in), 4 VFB (in) "Receives the remotely sensed feedback voltage from an external resistive divider across the output.", 5 SGND (power) "Small-Signal Ground. Must be routed separately from high current grounds to the common (-) terminals of the input capacitor", 6 PGND (power), 7 BG (out) "High Current Gate Drive for Bottom (Synchronous) N-Channel MOSFET. Voltage swing at this pin is from ground to INTVCC.", 8 INTVCC (power), 9 VIN (power) "Main Supply Pin. A bypass capacitor should be tied between this pin and the signal ground pin.", 10 SW "Switch Node Connections to Inductor. Voltage swing at this pin is from a Schottky diode (external) voltage drop below ground to VIN", 11 TG (out), 12 BOOST "Bootstrapped Supply to the Topside Floating Driver. A capacitor is connected between the BOOST and SW pins and a Schottky diode is tied between the BOOST and INTVCC pins. Voltage swing at the BOOST pin is from INTVCC to (VIN (See Datasheet)", 13 RUN (in), 14 SENSE- (in) "The (-) Input to the Differential Current Comparator.", 15 SENSE+ (in), 16 PLLIN/MODE (in)

## LTC3835EGN-1#TR
designator U?
Low IQ Synchronous Step-Down Controller, 16-pin SOP (GN-16), -40 to 85 degC, Tape and Reel; Manufacturer: Linear Technology; PartNumber: LTC3835EGN-1#TR; Number of Outputs: 1; PackageReference: GN-16; PackageDescription: 16-Pin Plastic SSOP, Body 4.9 x 3.9 mm, Pitch 0.635 mm; RoHS: FALSE
footprint LT-GN-16_N (SOP, 16-Leads, Body 5x4mm, Pitch 0.635mm, IPC Medium Density)
footprint LT-GN-16_L (SOP, 16-Leads, Body 5x4mm, Pitch 0.635mm, IPC High Density)
footprint LT-GN-16_M (SOP, 16-Leads, Body 5x4mm, Pitch 0.635mm, IPC Low Density)
pins: 1 PLLLPF (in), 2 ITH, 3 TRACK/SS (in), 4 VFB (in) "Receives the remotely sensed feedback voltage from an external resistive divider across the output.", 5 SGND (power) "Small-Signal Ground. Must be routed separately from high current grounds to the common (-) terminals of the input capacitor", 6 PGND (power), 7 BG (out) "High Current Gate Drive for Bottom (Synchronous) N-Channel MOSFET. Voltage swing at this pin is from ground to INTVCC.", 8 INTVCC (power), 9 VIN (power) "Main Supply Pin. A bypass capacitor should be tied between this pin and the signal ground pin.", 10 SW "Switch Node Connections to Inductor. Voltage swing at this pin is from a Schottky diode (external) voltage drop below ground to VIN", 11 TG (out), 12 BOOST "Bootstrapped Supply to the Topside Floating Driver. A capacitor is connected between the BOOST and SW pins and a Schottky diode is tied between the BOOST and INTVCC pins. Voltage swing at the BOOST pin is from INTVCC to (VIN (See Datasheet)", 13 RUN (in), 14 SENSE- (in) "The (-) Input to the Differential Current Comparator.", 15 SENSE+ (in), 16 PLLIN/MODE (in)

## LTC3835EGN-1#TRPBF
designator U?
Low IQ Synchronous Step-Down Controller, 16-pin SOP (GN-16), -40 to 85 degC, Pb-Free, Tape and Reel; Manufacturer: Linear Technology; PartNumber: LTC3835EGN-1#TRPBF; Number of Outputs: 1; PackageReference: GN-16; PackageDescription: 16-Pin Plastic SSOP, Body 4.9 x 3.9 mm, Pitch 0.635 mm; Supplier 1: Digi-Key; Supplier Part Number 1: LTC3835EGN-1#TRPBF-ND; RoHS: TRUE
footprint LT-GN-16_N (SOP, 16-Leads, Body 5x4mm, Pitch 0.635mm, IPC Medium Density)
footprint LT-GN-16_L (SOP, 16-Leads, Body 5x4mm, Pitch 0.635mm, IPC High Density)
footprint LT-GN-16_M (SOP, 16-Leads, Body 5x4mm, Pitch 0.635mm, IPC Low Density)
pins: 1 PLLLPF (in), 2 ITH, 3 TRACK/SS (in), 4 VFB (in) "Receives the remotely sensed feedback voltage from an external resistive divider across the output.", 5 SGND (power) "Small-Signal Ground. Must be routed separately from high current grounds to the common (-) terminals of the input capacitor", 6 PGND (power), 7 BG (out) "High Current Gate Drive for Bottom (Synchronous) N-Channel MOSFET. Voltage swing at this pin is from ground to INTVCC.", 8 INTVCC (power), 9 VIN (power) "Main Supply Pin. A bypass capacitor should be tied between this pin and the signal ground pin.", 10 SW "Switch Node Connections to Inductor. Voltage swing at this pin is from a Schottky diode (external) voltage drop below ground to VIN", 11 TG (out), 12 BOOST "Bootstrapped Supply to the Topside Floating Driver. A capacitor is connected between the BOOST and SW pins and a Schottky diode is tied between the BOOST and INTVCC pins. Voltage swing at the BOOST pin is from INTVCC to (VIN (See Datasheet)", 13 RUN (in), 14 SENSE- (in) "The (-) Input to the Differential Current Comparator.", 15 SENSE+ (in), 16 PLLIN/MODE (in)